# Altium footprint library LabLib.PcbLib: 145 footprints (part 3 of 10)
Each footprint in its own frame and in the unit in brackets; x right, y up, seen from the top. Pads: shape width x height; smd on the part's side, far side on the other; paste and mask are expansions set on the pad; w line width, h text height; cw(c..) or ccw(c..) is an arc to the next point about the centre after c.
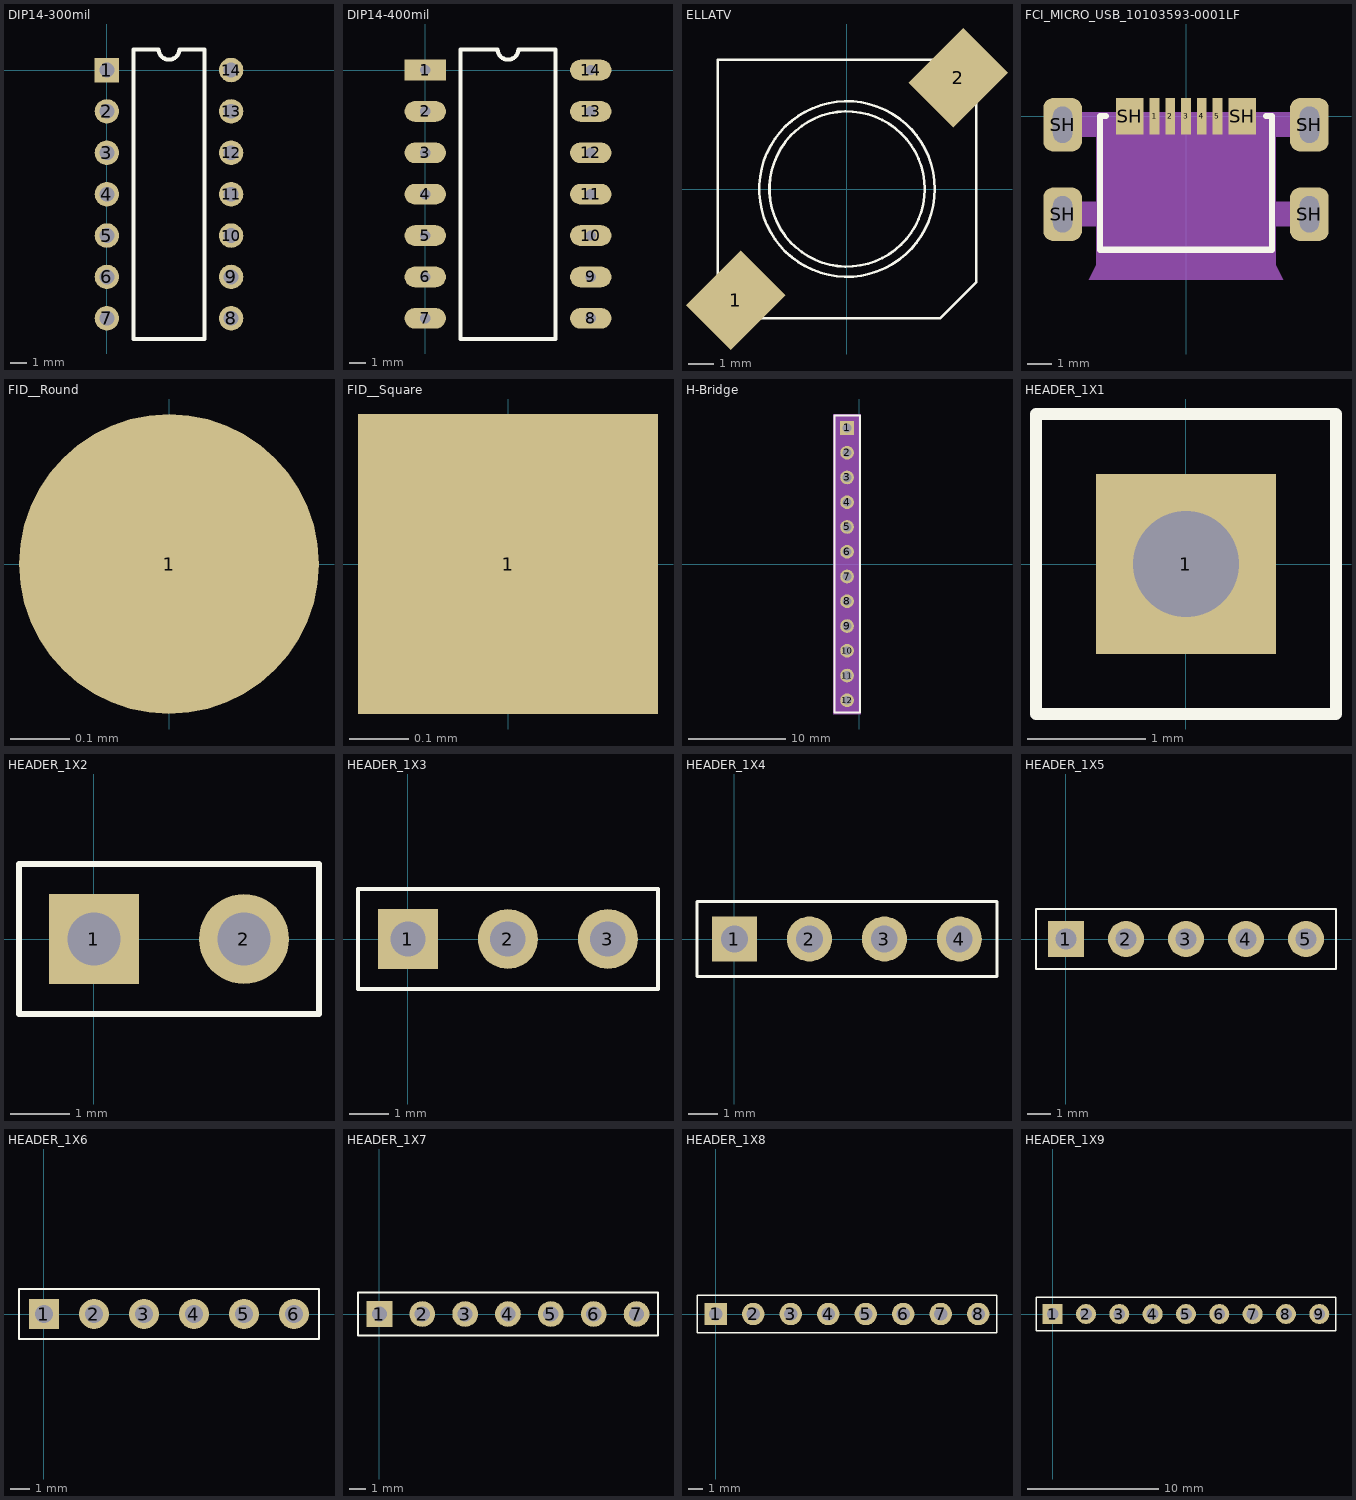
[diagram p2: the footprints below, top view; thin cyan lines are the x and y axes]

## DIP14-300mil [mm]
pads (14):
  rect 1.5x1.5 hole 0.9: 1(0,0)
  round 1.5 hole 0.9: 2(0,-2.54) 3(0,-5.08) 4(0,-7.62) 5(0,-10.16) 6(0,-12.7) 7(0,-15.24) 8(7.62,-15.24) 9(7.62,-12.7) 10(7.62,-10.16) 11(7.62,-7.62) 12(7.62,-5.08) 13(7.62,-2.54) 14(7.62,0)
Top Overlay:
  lines w0.254: 1.639,-16.51 5.981,-16.51 5.981,1.27 4.445,1.27 cw(c3.81,1.27) 3.175,1.27 1.639,1.27 1.639,-16.51

## DIP14-400mil [mm]
pads (14):
  rect 2.54x1.27 hole 0.635: 1(0,0)
  oval 2.54x1.27 hole 0.635: 2(0,-2.54) 3(0,-5.08) 4(0,-7.62) 5(0,-10.16) 6(0,-12.7) 7(0,-15.24) 8(10.16,-15.24) 9(10.16,-12.7) 10(10.16,-10.16) 11(10.16,-7.62) 12(10.16,-5.08) 13(10.16,-2.54) 14(10.16,0)
Top Overlay:
  lines w0.254: 2.159,-16.51 8.001,-16.51 8.001,1.27 5.715,1.27 cw(c5.08,1.27) 4.445,1.27 2.159,1.27 2.159,-16.51

## ELLATV [mm] "Inductor10uH"
height 4.2
pads (2):
  rect 2.45x3 smd rot 135: 1(-4.3,-4.3) 2(4.3,4.3)
Top Overlay:
  circle w0.1: c0,0 r3
  circle w0.1: c0,0 r3.394
  lines w0.1: -5,-3.6 -3.6,-5 3.6,-5 5,-3.6 5,3.6 3.6,5 -5,5 -5,-3.6

## FCI_MICRO_USB_10103593-0001LF [mm] "FCI_MICRO_USB_10103593-0001LF"
height 2.45
pads (11):
  rect 0.4x1.5 smd: 1(-1.3,-0.007) 2(-0.65,-0.007) 3(0,-0.007) 4(0.65,-0.007) 5(1.3,-0.007)
  rrect50% 1.6x2.2 hole 0.8 slot 1.5 at 90 deg: SH(-5.1,-4.057) SH(-5.1,-0.357) SH(5.1,-4.057) SH(5.1,-0.357)
  rect 1.15x1.5 smd: SH(-2.325,-0.007) SH(2.325,-0.007)
Top Overlay:
  lines w0.254: -3.302,0 -3.556,0 -3.556,-5.523 3.556,-5.523 3.556,0 3.302,0
Mechanical 14:
  region: -5.5,0.15 5.5,0.15 5.5,-0.85 3.7,-0.85 3.7,-3.55 5.5,-3.55 5.5,-4.55 3.7,-4.55 3.7,-6.15 4.02,-6.77 -4.02,-6.77 -3.7,-6.15 -3.7,-4.55 -5.5,-4.55 -5.5,-3.55 -3.7,-3.55 -3.7,-0.85 -5.5,-0.85
Mechanical 15:
  lines w0.127: -3.556,-5.66 3.556,-5.66

## FID__Round [mil] "Fiducial marker round"
pads (1):
  round 20 smd paste+10 mask-20: 1(0,0)

## FID__Square [mil] "Fiducial marker square"
pads (1):
  rect 20x20 smd paste+10 mask-20: 1(0,0)

## H-Bridge [mm] "H-Bridge"
height 4.4
pads (12):
  rect 1.4x1.4 hole 0.9: 1(-1.27,13.97)
  round 1.4 hole 0.9: 2(-1.27,11.43) 3(-1.27,8.89) 4(-1.27,6.35) 5(-1.27,3.81) 6(-1.27,1.27) 7(-1.27,-1.27) 8(-1.27,-3.81) 9(-1.27,-6.35) 10(-1.27,-8.89) 11(-1.27,-11.43) 12(-1.27,-13.97)
Top Overlay:
  lines w0.2: -2.55,-15.23 0.075,-15.23 0.075,15.23 -2.55,15.23 -2.55,-15.23
Mechanical 10:
  lines w0.025: -0.025,-15.24 -2.515,-15.24 -2.515,15.24 -0.025,15.24 ; -0.015,-15.24 -0.015,15.24 ; -2.362,-15.062 -0.178,-15.062 ; -2.362,-15.062 -1.727,-14.554 ; -2.362,-15.062 -2.362,-12.878 ; -2.362,-12.878 -0.178,-12.878 ; -2.362,-12.878 -1.727,-13.386 ; -2.362,-12.522 -0.178,-12.522 ; -2.362,-12.522 -1.727,-12.014 ; -2.362,-12.522 -2.362,-10.338 ; -2.362,-10.338 -0.178,-10.338 ; -2.362,-10.338 -1.727,-10.846 ; -2.362,-9.982 -0.178,-9.982 ; -2.362,-9.982 -1.727,-9.474 ; -2.362,-9.982 -2.362,-7.798 ; -2.362,-7.798 -0.178,-7.798 ; -2.362,-7.798 -1.727,-8.306 ; -2.362,-7.442 -0.178,-7.442 ; -2.362,-7.442 -1.727,-6.934 ; -2.362,-7.442 -2.362,-5.258 ; -2.362,-5.258 -0.178,-5.258 ; -2.362,-5.258 -1.727,-5.766 ; -2.362,-4.902 -0.178,-4.902 ; -2.362,-4.902 -1.727,-4.394 ; -2.362,-4.902 -2.362,-2.718 ; -2.362,-2.718 -1.727,-3.226 ; -2.362,-2.718 -0.178,-2.718 ; -2.362,-2.362 -0.178,-2.362 ; -2.362,-2.362 -1.727,-1.854 ; -2.362,-2.362 -2.362,-0.178 ; -2.362,-0.178 -1.727,-0.686 ; -2.362,-0.178 -0.178,-0.178 ; -2.362,0.178 -0.178,0.178 ; -2.362,0.178 -1.727,0.686 ; -2.362,0.178 -2.362,2.362 ; -2.362,2.362 -1.727,1.854 ; -2.362,2.362 -0.178,2.362 ; -2.362,2.718 -0.178,2.718 ; -2.362,2.718 -2.362,4.902 ; -2.362,2.718 -1.727,3.226 ; -2.362,4.902 -1.727,4.394 ; -2.362,4.902 -0.178,4.902 ; -2.362,5.258 -2.362,7.442 ; -2.362,5.258 -0.178,5.258 ; -2.362,5.258 -1.727,5.766 ; -2.362,7.442 -1.727,6.934 ; -2.362,7.442 -0.178,7.442 ; -2.362,7.798 -2.362,9.982 ; -2.362,7.798 -0.178,7.798 ; -2.362,7.798 -1.727,8.306 ; -2.362,9.982 -1.727,9.474 ; -2.362,9.982 -0.178,9.982 ; -2.362,10.338 -2.362,12.522 ; -2.362,10.338 -0.178,10.338 ; -2.362,10.338 -1.727,10.846 ; -2.362,12.522 -1.727,12.014 ; -2.362,12.522 -0.178,12.522 ; -2.362,12.878 -2.362,15.062 ; -2.362,12.878 -1.727,13.386 ; -2.362,12.878 -0.178,12.878 ; -2.362,15.062 -1.727,14.554 ; -2.362,15.062 -0.178,15.062 ; -1.727,-14.554 -0.813,-14.554 ; -1.727,-14.554 -1.727,-13.386 ; -1.727,-13.386 -0.813,-13.386 ; -1.727,-12.014 -0.813,-12.014 ; -1.727,-12.014 -1.727,-10.846 ; -1.727,-10.846 -0.813,-10.846 ; -1.727,-9.474 -0.813,-9.474 ; -1.727,-9.474 -1.727,-8.306 ; -1.727,-8.306 -0.813,-8.306 ; -1.727,-6.934 -0.813,-6.934 ; -1.727,-6.934 -1.727,-5.766 ; -1.727,-5.766 -0.813,-5.766 ; -1.727,-4.394 -0.813,-4.394 ; -1.727,-4.394 -1.727,-3.226 ; -1.727,-3.226 -0.813,-3.226 ; -1.727,-1.854 -0.813,-1.854 ; -1.727,-1.854 -1.727,-0.686 ; -1.727,-0.686 -0.813,-0.686 ; -1.727,0.686 -0.813,0.686 ; -1.727,0.686 -1.727,1.854 ; -1.727,1.854 -0.813,1.854 ; -1.727,3.226 -1.727,4.394 ; -1.727,3.226 -0.813,3.226 ; -1.727,4.394 -0.813,4.394 ; -1.727,5.766 -1.727,6.934 ; -1.727,5.766 -0.813,5.766 ; -1.727,6.934 -0.813,6.934 ; -1.727,8.306 -1.727,9.474 ; -1.727,8.306 -0.813,8.306 ; -1.727,9.474 -0.813,9.474 ; -1.727,10.846 -1.727,12.014 ; -1.727,10.846 -0.813,10.846 ; -1.727,12.014 -0.813,12.014 ; -1.727,13.386 -1.727,14.554 ; -1.727,13.386 -0.813,13.386 ; -1.727,14.554 -0.813,14.554 ; -0.813,-14.554 -0.178,-15.062 ; -0.813,-14.554 -0.813,-13.386 ; -0.813,-13.386 -0.178,-12.878 ; -0.813,-12.014 -0.178,-12.522 ; -0.813,-12.014 -0.813,-10.846 ; -0.813,-10.846 -0.178,-10.338 ; -0.813,-9.474 -0.178,-9.982 ; -0.813,-9.474 -0.813,-8.306 ; -0.813,-8.306 -0.178,-7.798 ; -0.813,-6.934 -0.178,-7.442 ; -0.813,-6.934 -0.813,-5.766 ; -0.813,-5.766 -0.178,-5.258 ; -0.813,-4.394 -0.178,-4.902 ; -0.813,-4.394 -0.813,-3.226 ; -0.813,-3.226 -0.178,-2.718 ; -0.813,-1.854 -0.178,-2.362 ; -0.813,-1.854 -0.813,-0.686 ; -0.813,-0.686 -0.178,-0.178 ; -0.813,0.686 -0.178,0.178 ; -0.813,0.686 -0.813,1.854 ; -0.813,1.854 -0.178,2.362 ; -0.813,3.226 -0.813,4.394 ; -0.813,3.226 -0.178,2.718 ; -0.813,4.394 -0.178,4.902 ; -0.813,5.766 -0.813,6.934 ; -0.813,5.766 -0.178,5.258 ; -0.813,6.934 -0.178,7.442 ; -0.813,8.306 -0.813,9.474 ; -0.813,8.306 -0.178,7.798 ; -0.813,9.474 -0.178,9.982 ; -0.813,10.846 -0.813,12.014 ; -0.813,10.846 -0.178,10.338 ; -0.813,12.014 -0.178,12.522 ; -0.813,13.386 -0.813,14.554 ; -0.813,13.386 -0.178,12.878 ; -0.813,14.554 -0.178,15.062 ; -0.178,-15.062 -0.178,-12.878 ; -0.178,-12.522 -0.178,-10.338 ; -0.178,-9.982 -0.178,-7.798 ; -0.178,-7.442 -0.178,-5.258 ; -0.178,-4.902 -0.178,-2.718 ; -0.178,-2.362 -0.178,-0.178 ; -0.178,0.178 -0.178,2.362 ; -0.178,2.718 -0.178,4.902 ; -0.178,5.258 -0.178,7.442 ; -0.178,7.798 -0.178,9.982 ; -0.178,10.338 -0.178,12.522 ; -0.178,12.878 -0.178,15.062
Mechanical 11:
  region: -2.7,15.4 -2.7,-15.375 0.15,-15.375 0.15,15.4

## HEADER_1X1 [mil]
pads (1):
  rect 60x60 hole 35.43: 1(0,0)
Top Overlay:
  lines w3.97: -50,-50 -50,50 50.1,50 50.1,-50 -50,-50

## HEADER_1X2 [mil]
pads (2):
  rect 60x60 hole 35.43: 1(0,0)
  round 60 hole 35.43: 2(100,0)
Top Overlay:
  lines w3.97: -50,-50 150.1,-50 150.1,50 -50,50 -50,-50

## HEADER_1X3 [mil]
pads (3):
  rect 60x60 hole 35.43: 1(0,0)
  round 60 hole 35.43: 2(100,0) 3(200,0)
Top Overlay:
  lines w3.97: -50,-50 250.1,-50 250.1,50 -50,50 -50,-50

## HEADER_1X4 [mil]
pads (4):
  rect 60x60 hole 35.43: 1(0,0)
  round 60 hole 35.43: 2(100,0) 3(200,0) 4(300,0)
Top Overlay:
  lines w3.97: -50,-50 -50,50 350.1,50 350.1,-50 -50,-50

## HEADER_1X5 [mil]
pads (5):
  rect 60x60 hole 35.43: 1(0,0)
  round 60 hole 35.43: 2(100,0) 3(200,0) 4(300,0) 5(400,0)
Top Overlay:
  lines w3.97: -50,-50 450.1,-50 450.1,50 -50,50 -50,-50

## HEADER_1X6 [mil]
pads (6):
  rect 60x60 hole 35.43: 1(0,0)
  round 60 hole 35.43: 2(100,0) 3(200,0) 4(300,0) 5(400,0) 6(500,0)
Top Overlay:
  lines w3.97: -50,-50 -50,50 550.1,50 550.1,-50 -50,-50

## HEADER_1X7 [mil]
pads (7):
  rect 60x60 hole 35.43: 1(0,0)
  round 60 hole 35.43: 2(100,0) 3(200,0) 4(300,0) 5(400,0) 6(500,0) 7(600,0)
Top Overlay:
  lines w3.97: -50,-50 650.1,-50 650.1,50 -50,50 -50,-50

## HEADER_1X8 [mil]
pads (8):
  rect 60x60 hole 35.43: 1(0,0)
  round 60 hole 35.43: 2(100,0) 3(200,0) 4(300,0) 5(400,0) 6(500,0) 7(600,0) 8(700,0)
Top Overlay:
  lines w3.97: -50,-50 -50,50 750.1,50 750.1,-50 -50,-50

## HEADER_1X9 [mil]
pads (9):
  rect 60x60 hole 35.43: 1(0,0)
  round 60 hole 35.43: 2(100,0) 3(200,0) 4(300,0) 5(400,0) 6(500,0) 7(600,0) 8(700,0) 9(800,0)
Top Overlay:
  lines w3.97: -50,-50 850.1,-50 850.1,50 -50,50 -50,-50